# Altium schematic symbol library STPS20M100SG-TR.SchLib: 1 symbol
Pins are listed as number, name and electrical type; pins without a type are passive.

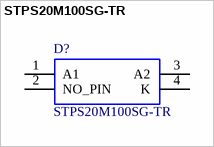
[diagram p0: symbol STPS20M100SG-TR]

## STPS20M100SG-TR
designator D?
STMicroelectronics STPS20M100SG-TR, SMT Schottky Diode, 100V 20A, 3-Pin D2PAK; Manufacturer_Name: STMicroelectronics; Manufacturer_Part_Number: STPS20M100SG-TR; RS Part Number: 8805437P; RS Price/Stock: http://uk.rs-online.com/web/p/products/8805437P; Arrow Part Number: STPS20M100SG-TR; Arrow Price/Stock: https://www.arrow.com/en/products/stps20m100sg-tr/stmicroelectronics; Datasheet Link: http://www.st.com/content/ccc/resource/technical/document/datasheet/group2/8f/d3/41/ea/82/b2/4b/5a/CD00228904/files/CD00228904.pdf/jcr:content/translations/en.CD00228904.pdf
footprint 3-PIN-D2PAK
pins: 1 A1, 2 NO_PIN, 3 A2, 4 K